# Altium schematic symbol library MSK12C02.SchLib: 1 symbol
Pins are listed as number, name and electrical type; pins without a type are passive.

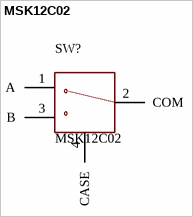
[diagram p0: symbol MSK12C02]

## MSK12C02
designator SW?
Shou Han MSK12C02 miniature SMD SPDT slide switch, ON-ON, 12 VDC 50 mA; four case tabs are pin 4; Description: Miniature SMD SPDT slide switch, 12V 50mA; Manufacturer: SHOU HAN; Manufacturer Part Number: MSK12C02; LCSC Part Number: C431540
footprint MSK12C02 (MSK12C02 8.0x2.8mm SMD slide switch)
pins: 1 A, 2 COM, 3 B, 4 CASE